# Altium footprint library fszhang.PcbLib: 172 footprints (part 7 of 11)
Each footprint in its own frame and in the unit in brackets; x right, y up, seen from the top. Pads: shape width x height; smd on the part's side, far side on the other; paste and mask are expansions set on the pad; w line width, h text height; cw(c..) or ccw(c..) is an arc to the next point about the centre after c.
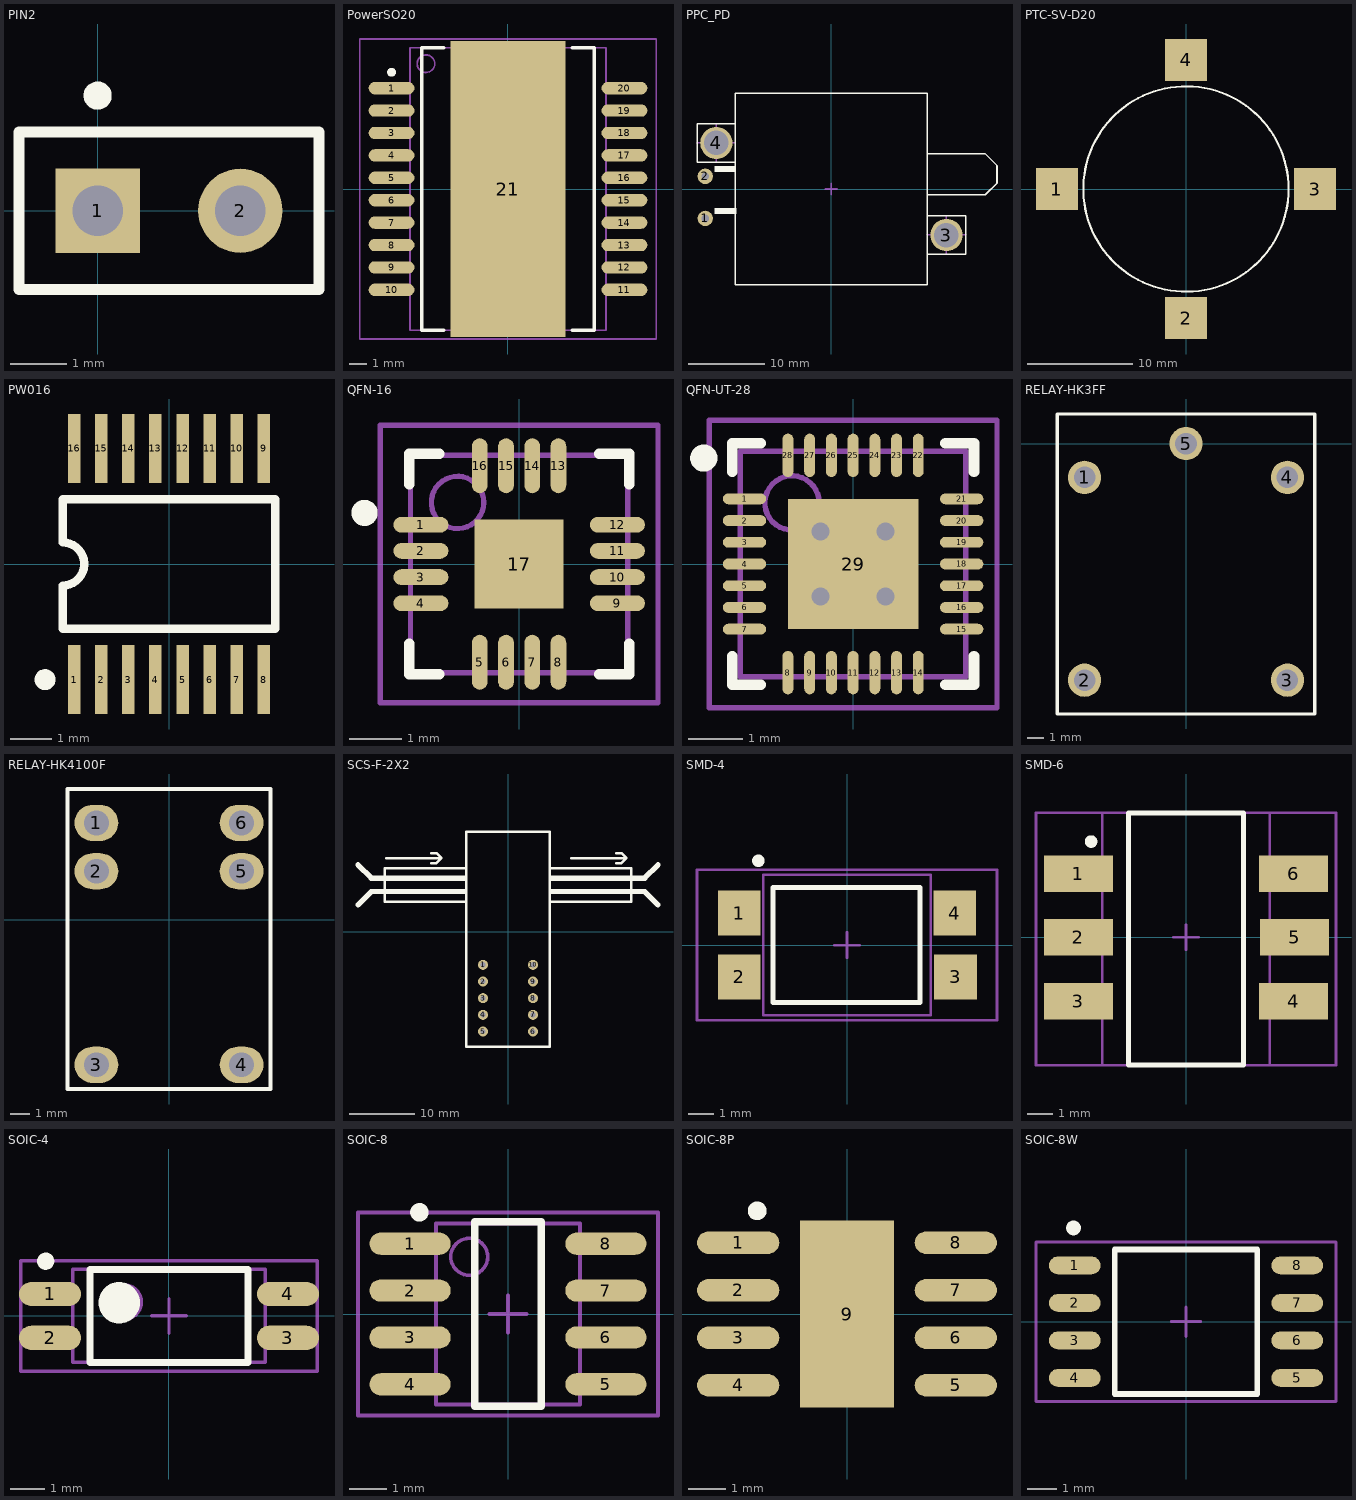
[diagram p6: the footprints below, top view; thin cyan lines are the x and y axes]

## PIN2 [mm]
height 2.6
pads (2):
  rect 1.5x1.5 hole 0.9: 1(0,0)
  round 1.5 hole 0.9: 2(2.54,0)
Top Overlay:
  circle w0.25: c0,2.05 r0.125
  lines w0.2: -1.4,-1.4 -1.4,1.4 3.94,1.4 3.94,-1.4 -1.4,-1.4

## PowerSO20 [mm] "SOP, 20-Leads, Body 15.9x11mm, Pitch 1.27mm, IPC Low Density"
height 3.6
pads (21):
  oval 2.6x0.7 smd: 1(-6.6,5.715) 2(-6.6,4.445) 3(-6.6,3.175) 4(-6.6,1.905) 5(-6.6,0.635) 6(-6.6,-0.635) 7(-6.6,-1.905) 8(-6.6,-3.175) 9(-6.6,-4.445) 10(-6.6,-5.715) 11(6.6,-5.715) 12(6.6,-4.445) 13(6.6,-3.175) 14(6.6,-1.905) 15(6.6,-0.635) 16(6.6,0.635) 17(6.6,1.905) 18(6.6,3.175) 19(6.6,4.445) 20(6.6,5.715)
  rect 6.5x16.8 smd: 21(0,0)
Top Overlay:
  circle w0.25: c-6.6,6.615 r0.125
  lines w0.2: -3.65,-8 -4.9,-8 -4.9,8 -3.65,8 ; 3.65,-8 4.9,-8 4.9,8 3.65,8
Mechanical 13:
  circle w0.1: c-4.65,7.1 r0.5
  lines w0.1: -5.55,-8 -5.55,8 5.55,8 5.55,-8 -5.55,-8
Mechanical 15:
  lines w0.1: -0.5,0 0.5,0 ; 0,-0.5 0,0.5 ; -8.4,-8.5 -8.4,8.5 8.4,8.5 8.4,-8.5 -8.4,-8.5
3D body: height 3.6, standoff 0, extent -5.55,-8 5.55,8

## PPC_PD [mm]
pads (4):
  round 2 hole 1: 1(-16.434,-3.835) 2(-16.434,1.651)
  round 4.2 hole 3.2: 3(15.011,-6.007) 4(-14.999,6.007)
Top Overlay:
  rectangle: -15.24,-3.277 -12.395,-2.464
  rectangle: -15.24,2.21 -12.497,3.023
  lines w0.2: -12.497,3.505 -17.501,3.505 -17.501,8.509 -12.497,8.509 ; 12.497,-8.509 17.501,-8.509 17.501,-3.505 12.497,-3.505 ; 12.497,-0.762 20.066,-0.762 21.59,0.762 21.603,0.762 21.603,3.061 20.091,4.572 12.497,4.572 ; -12.497,-12.497 12.497,-12.497 12.497,12.497 -12.497,12.497 -12.497,-12.497
Mechanical 15:
  lines w0.2: -17.513,6.02 -12.509,6.02 ; -14.999,3.505 -14.999,8.509 ; -0.762,0 0.762,0 ; 0,-0.762 0,0.762 ; 12.497,-5.994 17.501,-5.994 ; 15.011,-8.509 15.011,-3.505

## PTC-SV-D20 [mm] "PTC加热片"
height 2
pads (4):
  rect 4x4 smd: 1(-12.319,0) 2(0,-12.319) 3(12.319,0) 4(0,12.319)
Top Overlay:
  circle w0.2: c0,0 r9.8

## PW016 [mm] "Shrink Small Outline; 16 Leads; Body Width 4.4 mm; Pitch 0.65 mm"
height 1.2
pads (16):
  rect 0.3x1.65 smd: 1(-2.275,-2.775) 2(-1.625,-2.775) 3(-0.975,-2.775) 4(-0.325,-2.775) 5(0.325,-2.775) 6(0.975,-2.775) 7(1.625,-2.775) 8(2.275,-2.775) 9(2.275,2.775) 10(1.625,2.775) 11(0.975,2.775) 12(0.325,2.775) 13(-0.325,2.775) 14(-0.975,2.775) 15(-1.625,2.775) 16(-2.275,2.775)
Top Overlay:
  circle w0.25: c-2.975,-2.775 r0.125
  lines w0.2: -2.55,-1.55 -2.55,-0.517 ccw(c-2.55,0) -2.55,0.517 -2.55,1.55 2.55,1.55 2.55,-1.55 -2.55,-1.55

## QFN-16 [mm] "QFN"
height 0.8
pads (17):
  oval 1.05x0.3 smd: 1(-1.875,0.75) 2(-1.875,0.25) 3(-1.875,-0.25) 4(-1.875,-0.75) 9(1.875,-0.75) 10(1.875,-0.25) 11(1.875,0.25) 12(1.875,0.75)
  oval 0.3x1.05 smd: 5(-0.75,-1.875) 6(-0.25,-1.875) 7(0.25,-1.875) 8(0.75,-1.875) 13(0.75,1.875) 14(0.25,1.875) 15(-0.25,1.875) 16(-0.75,1.875)
  rect 1.7x1.7 smd: 17(0,0)
Top Overlay:
  circle w0.25: c-2.95,0.975 r0.125
  lines w0.2: -2.1,-1.525 -2.1,-2.1 -1.525,-2.1 ; -2.1,1.525 -2.1,2.1 -1.525,2.1 ; 1.525,-2.1 2.1,-2.1 2.1,-1.525 ; 1.525,2.1 2.1,2.1 2.1,1.525
Mechanical 13:
  circle w0.1: c-1.175,1.175 r0.5
  lines w0.1: -2.075,-2.075 -2.075,2.075 2.075,2.075 2.075,-2.075 -2.075,-2.075
Mechanical 15:
  lines w0.1: -0.5,0 0.5,0 ; 0,-0.5 0,0.5 ; -2.65,-2.65 -2.65,2.65 2.65,2.65 2.65,-2.65 -2.65,-2.65
3D body: height 0.8, standoff 0, extent -2.075,-2.075 2.075,2.075

## QFN-UT-28 [mm] "QFN, 28-Leads, Body 4x4 mm, Pitch 0.4mm, IPC Medium Density"
height 0.55
pads (29):
  oval 0.8x0.2 smd: 1(-2,1.2) 2(-2,0.8) 3(-2,0.4) 4(-2,0) 5(-2,-0.4) 6(-2,-0.8) 7(-2,-1.2) 15(2,-1.2) 16(2,-0.8) 17(2,-0.4) 18(2,0) 19(2,0.4) 20(2,0.8) 21(2,1.2)
  oval 0.2x0.8 smd: 8(-1.2,-2) 9(-0.8,-2) 10(-0.4,-2) 11(0,-2) 12(0.4,-2) 13(0.8,-2) 14(1.2,-2) 22(1.2,2) 23(0.8,2) 24(0.4,2) 25(0,2) 26(-0.4,2) 27(-0.8,2) 28(-1.2,2)
  rect 2.4x2.4 smd: 29(0,0)
via -0.6,0.6 diameter 0.66 hole 0.33
via 0.6,0.6 diameter 0.66 hole 0.33
via -0.6,-0.6 diameter 0.66 hole 0.33
via 0.6,-0.6 diameter 0.66 hole 0.33
Top Overlay:
  circle w0.25: c-2.75,1.95 r0.125
  lines w0.2: -2.225,-1.7 -2.225,-2.225 -1.7,-2.225 ; -2.225,1.7 -2.225,2.225 -1.7,2.225 ; 1.7,-2.225 2.225,-2.225 2.225,-1.7 ; 1.7,2.225 2.225,2.225 2.225,1.7
Mechanical 13:
  circle w0.1: c-1.125,1.125 r0.5
  lines w0.1: -2.075,-2.075 -2.075,2.075 2.075,2.075 2.075,-2.075 -2.075,-2.075
Mechanical 15:
  lines w0.1: -0.5,0 0.5,0 ; 0,-0.5 0,0.5 ; -2.65,-2.65 -2.65,2.65 2.65,2.65 2.65,-2.65 -2.65,-2.65
3D body: height 0.55, standoff 0, extent -2.075,-2.075 2.075,2.075

## RELAY-HK3FF [mm] "继电器"
height 11.8
pads (5):
  round 2 hole 1.3: 1(-6.096,-2.032) 2(-6.096,-14.224) 3(6.096,-14.224) 4(6.096,-2.032) 5(0,0)
Top Overlay:
  lines w0.2: -7.747,-16.256 7.747,-16.256 7.747,1.778 -7.747,1.778 -7.747,-16.256
3D body: height 12, standoff 0, extent -7.747,-16.256 7.747,1.778

## RELAY-HK4100F [mm] "继电器"
height 11.8
pads (6):
  oval 2.3x1.9 hole 1.3: 1(-3.81,5.08) 2(-3.81,2.54) 3(-3.81,-7.62) 4(3.81,-7.62) 5(3.81,2.54) 6(3.81,5.08)
Top Overlay:
  lines w0.2: -5.334,-8.89 5.334,-8.89 5.334,6.858 -5.334,6.858 -5.334,-8.89
3D body: height 12, standoff 0, extent -5.334,-8.89 5.334,6.858

## SCS-F-2X2 [mil]
pads (10):
  round 60 hole 32: 1(-150,-200) 2(-150,-300) 3(-150,-400) 4(-150,-500) 5(-150,-600) 6(150,-600) 7(150,-500) 8(150,-400) 9(150,-300) 10(150,-200)
Top Overlay:
  lines w15: -730,440 -400,440 ; -460,410 -430,410 -400,440 ; -460,470 -430,470 -400,440 ; -260,180 -740,180 -740,380 -250,380 ; 250,380 740,380 740,180 260,180 ; 380,440 710,440 ; 650,410 680,410 710,440 ; 650,470 680,470 710,440 ; -250,-690 250,-690 250,600 -250,600 -250,-690
  lines w31.5: -900,160 -820,240 -260,240 ; -900,400 -820,320 -260,320 ; 260,240 820,240 900,160 ; 260,320 820,320 900,400

## SMD-4 [mm] "继电器"
height 3.8
pads (4):
  rect 1.7x1.8 smd: 1(-4.283,1.27) 2(-4.283,-1.27) 3(4.318,-1.27) 4(4.283,1.27)
Top Overlay:
  circle w0.25: c-3.529,3.353 r0.125
  lines w0.2: -2.946,-2.286 -2.946,2.286 2.896,2.286 2.896,-2.286 -2.946,-2.286
Mechanical 13:
  lines w0.1: -3.325,-2.794 3.325,-2.794 3.325,2.794 -3.325,2.794 -3.325,-2.794
Mechanical 15:
  lines w0.1: -0.5,0 0.5,0 ; 0,-0.5 0,0.5 ; -5.969,-2.997 5.969,-2.997 5.969,2.997 -5.969,2.997 -5.969,-2.997
3D body: height 3.8, standoff 0.05, extent -3.302,-2.794 3.302,2.743

## SMD-6 [mm] "继电器"
height 3.8
pads (6):
  rect 2.75x1.45 smd: 1(-4.283,2.54) 2(-4.283,0) 3(-4.283,-2.54) 4(4.283,-2.54) 5(4.318,0) 6(4.283,2.54)
Top Overlay:
  circle w0.25: c-3.775,3.815 r0.125
  lines w0.2: -2.286,-5.08 2.286,-5.08 2.286,4.953 -2.286,4.953 -2.286,-5.08
Mechanical 13:
  lines w0.1: -3.325,-5.08 -3.325,4.953 3.325,4.953 3.325,-5.08 -3.325,-5.08
Mechanical 15:
  lines w0.1: -0.5,0 0.5,0 ; 0,-0.5 0,0.5 ; -5.969,-5.08 -5.969,4.953 5.969,4.953 5.969,-5.08 -5.969,-5.08
3D body: height 3.8, standoff 0.05, extent -3.325,-5.08 3.325,4.953

## SOIC-4 [mm] "SOP, 4-Leads, Body 2.7x4.5mm (max), Pitch 1.27mm, IPC Medium Density"
height 3.5
pads (4):
  oval 1.8x0.7 smd: 1(-3.448,0.635) 2(-3.448,-0.635) 3(3.448,-0.635) 4(3.448,0.635)
Top Overlay:
  circle w0.25: c-3.575,1.585 r0.125
  circle w0.6: c-1.443,0.381 r0.3
  lines w0.2: -2.286,-1.35 -2.286,1.35 2.286,1.35 2.286,-1.35 -2.286,-1.35
Mechanical 13:
  circle w0.1: c-1.3,0.4 r0.5
  lines w0.1: -2.794,-1.35 -2.794,1.35 2.794,1.35 2.794,-1.35 -2.794,-1.35
Mechanical 15:
  lines w0.1: -0.5,0 0.5,0 ; 0,-0.5 0,0.5 ; -4.3,-1.6 -4.3,1.6 4.3,1.6 4.3,-1.6 -4.3,-1.6
3D body: height 3.5, standoff 0.25, extent -2.758,-1.35 2.794,1.35

## SOIC-8 [mm]
height 1.75
pads (8):
  oval 2.2x0.6 smd: 1(-2.654,1.905) 2(-2.654,0.635) 3(-2.654,-0.635) 4(-2.654,-1.905) 5(2.654,-1.905) 6(2.654,-0.635) 7(2.654,0.635) 8(2.654,1.905)
Top Overlay:
  circle w0.25: c-2.4,2.755 r0.125
  lines w0.2: -0.9,-2.5 0.9,-2.5 0.9,2.5 -0.9,2.5 -0.9,-2.5
Mechanical 13:
  circle w0.1: c-1.05,1.55 r0.5
  lines w0.1: -1.95,-2.45 1.95,-2.45 1.95,2.45 -1.95,2.45 -1.95,-2.45
Mechanical 15:
  lines w0.1: -0.5,0 0.5,0 ; 0,-0.5 0,0.5 ; -4.064,-2.75 4.064,-2.75 4.064,2.75 -4.064,2.75 -4.064,-2.75
3D body: height 1.7, standoff 0, extent -3,-2.45 3,2.45

## SOIC-8P [mm]
height 1.75
pads (9):
  oval 2.2x0.6 smd: 1(-2.908,1.905) 2(-2.908,0.635) 3(-2.908,-0.635) 4(-2.908,-1.905) 5(2.908,-1.905) 6(2.908,-0.635) 7(2.908,0.635) 8(2.908,1.905)
  rect 2.5x5 smd: 9(0,0)
Top Overlay:
  circle w0.25: c-2.4,2.755 r0.125

## SOIC-8W [mm] "SPI_FLASH"
height 1.75
pads (8):
  oval 1.75x0.6 smd: 1(-3.768,1.905) 2(-3.768,0.635) 3(-3.768,-0.635) 4(-3.768,-1.905) 5(3.768,-1.905) 6(3.768,-0.635) 7(3.768,0.635) 8(3.768,1.905)
Top Overlay:
  circle w0.25: c-3.808,3.175 r0.125
  lines w0.2: -2.413,-2.45 2.413,-2.45 2.413,2.45 -2.413,2.45 -2.413,-2.45
Mechanical 15:
  lines w0.1: -0.5,0 0.5,0 ; 0,-0.5 0,0.5 ; -5.08,-2.7 5.08,-2.7 5.08,2.7 -5.08,2.7 -5.08,-2.7